# EAGLE library part CMX882 (library CML)
CMX882 - FRS AUDIO PROCESSOR complete frs audio processor with built in packet modem with gps support
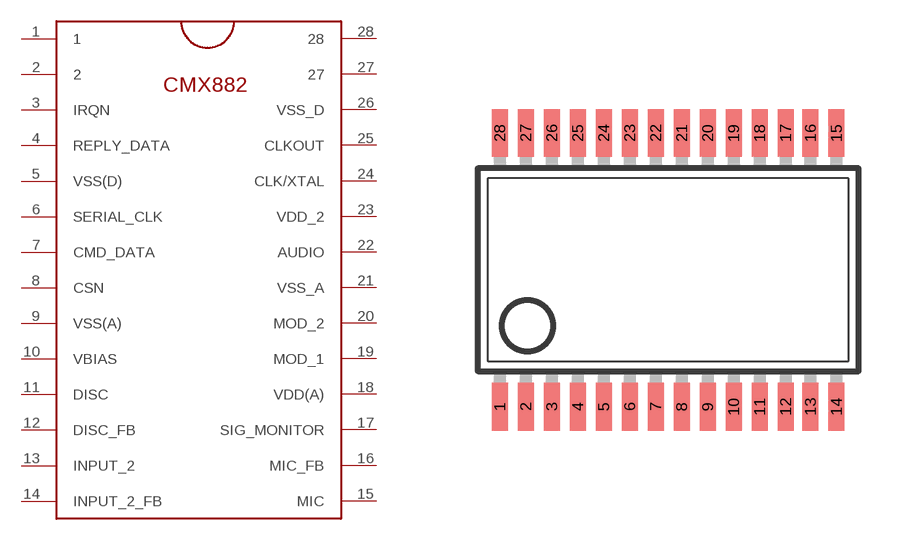
[diagram p0: symbol with the pads of SSOP_28; footprint SSOP_28]

Designator prefix U

## CMX882-SSOP  [SSOP_28]
1  1  nc
2  2  nc
3  IRQN  out
4  REPLY_DATA  hiz
5  VSS(D)  pwr
6  SERIAL_CLK  in
7  CMD_DATA  in
8  CSN  in
9  VSS(A)  pwr
10  VBIAS  out
11  DISC  in
12  DISC_FB  out
13  INPUT_2  in
14  INPUT_2_FB  out
15  MIC  in
16  MIC_FB  out
17  SIG_MONITOR  in
18  VDD(A)  pwr
19  MOD_1  out
20  MOD_2  out
21  VSS_A  pwr
22  AUDIO  out
23  VDD_2  pwr
24  CLK/XTAL  in
25  CLKOUT  out
26  VSS_D  in
27  27  nc
28  28  nc

## Footprint SSOP_28 (pad centres in mm)
smd 0.4 x 1.2: 1 -3.575,-3.42; 2 -2.925,-3.42; 3 -2.275,-3.42; 4 -1.625,-3.42; 5 -0.975,-3.42; 6 -0.325,-3.42; 7 0.325,-3.42; 8 0.975,-3.42; 9 1.625,-3.42; 10 2.275,-3.42; 11 2.925,-3.42; 12 3.575,-3.42; 13 4.195,-3.42; 14 4.845,-3.42; 15 4.845,3.42; 16 4.195,3.42; 17 3.575,3.42; 18 2.925,3.42; 19 2.275,3.42; 20 1.625,3.42; 21 0.975,3.42; 22 0.325,3.42; 23 -0.325,3.42; 24 -0.975,3.42; 25 -1.625,3.42; 26 -2.275,3.42; 27 -2.925,3.42; 28 -3.575,3.42